# Altium schematic symbol library ISM_FR4.SCHLIB: 1 symbol
Pins are listed as number, name and electrical type; pins without a type are passive.

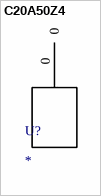
[diagram p0: symbol C20A50Z4]

## C20A50Z4
designator U?
Anaren 50 ohm RF termination.
pins: 0